# EAGLE library part MICS5526 (library Alberto)
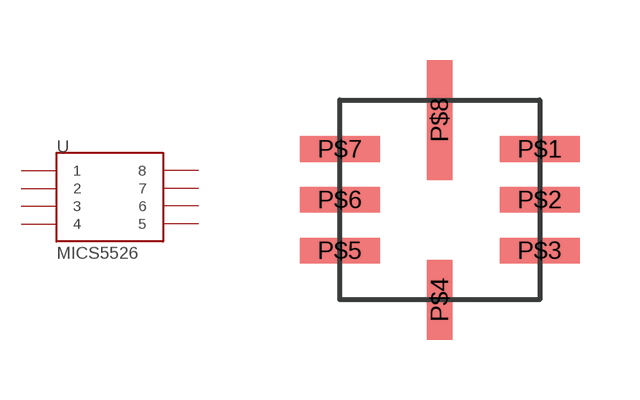
[diagram p2: symbol with the pads of SMD-MICS5526; footprint SMD-MICS5526]

Designator prefix -

## MICS5526  [SMD-MICS5526]
P$1  1
P$2  2
P$3  3
P$4  4
P$5  5
P$6  6
P$7  7
P$8  8

## Footprint SMD-MICS5526 (pad centres in mm)
smd 2 x 0.64: P$1 2.5,1.27; P$2 2.5,0; P$3 2.5,-1.27; P$5 -2.5,-1.27; P$6 -2.5,0; P$7 -2.5,1.27
smd 0.64 x 2: P$4 0,-2.5
smd 0.64 x 3: P$8 0,2